# EAGLE library part LM20125MHE_NOPB (library LM20125MHE_NOPB)
2.95-5.5V, 5A, Current Mode Synchronous Buck Regulator with Optional Automotive Grade Source: Datasheet <https://www.ti.com/lit/ds/symlink/lm20125.pdf?ts=1629109190982&ref_url=https%3A%2F%2Fwww.google.com%2F>
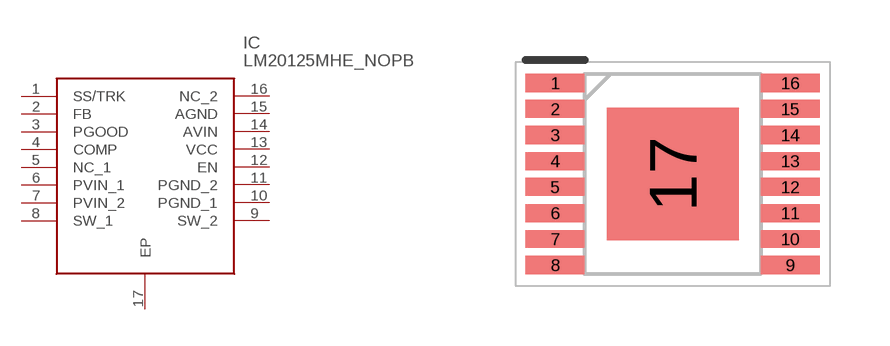
[diagram p0: symbol with the pads of SOP65P640X120-17N; footprint SOP65P640X120-17N]

Designator prefix IC

## LM20125MHE_NOPB (Description: 2.95-5.5V, 5A, Current Mode Synchronous Buck Regulator with Optional Automotive Grade; Height: 1.2mm; Manufacturer_Name: Texas Instruments; Manufacturer_Part_Number: LM20125MHE/NOPB; Mouser_Part_Number: 926-LM20125MHE/NOPB; Mouser_Price-Stock: https://www.mouser.co.uk/ProductDetail/Texas-Instruments/LM20125MHE-NOPB?qs=X1J7HmVL2ZErox0lMoKn2A%3D%3D)  [SOP65P640X120-17N]
1  SS/TRK
2  FB
3  PGOOD
4  COMP
5  NC_1
6  PVIN_1
7  PVIN_2
8  SW_1
9  SW_2
10  PGND_1
11  PGND_2
12  EN
13  VCC
14  AVIN
15  AGND
16  NC_2
17  EP

## Footprint SOP65P640X120-17N (pad centres in mm)
PWP0016A _ 2021
smd 1.475 x 0.45: 1 -2.938,2.275; 2 -2.938,1.625; 3 -2.938,0.975; 4 -2.938,0.325; 5 -2.938,-0.325; 6 -2.938,-0.975; 7 -2.938,-1.625; 8 -2.938,-2.275; 9 2.938,-2.275; 10 2.938,-1.625; 11 2.938,-0.975; 12 2.938,-0.325; 13 2.938,0.325; 14 2.938,0.975; 15 2.938,1.625; 16 2.938,2.275
smd 3.3 x 3.3: 17 0,0